# Altium footprint library alexsb.PCBLIB: 444 footprints (part 11 of 28)
Each footprint in its own frame and in the unit in brackets; x right, y up, seen from the top. Pads: shape width x height; smd on the part's side, far side on the other; paste and mask are expansions set on the pad; w line width, h text height; cw(c..) or ccw(c..) is an arc to the next point about the centre after c.
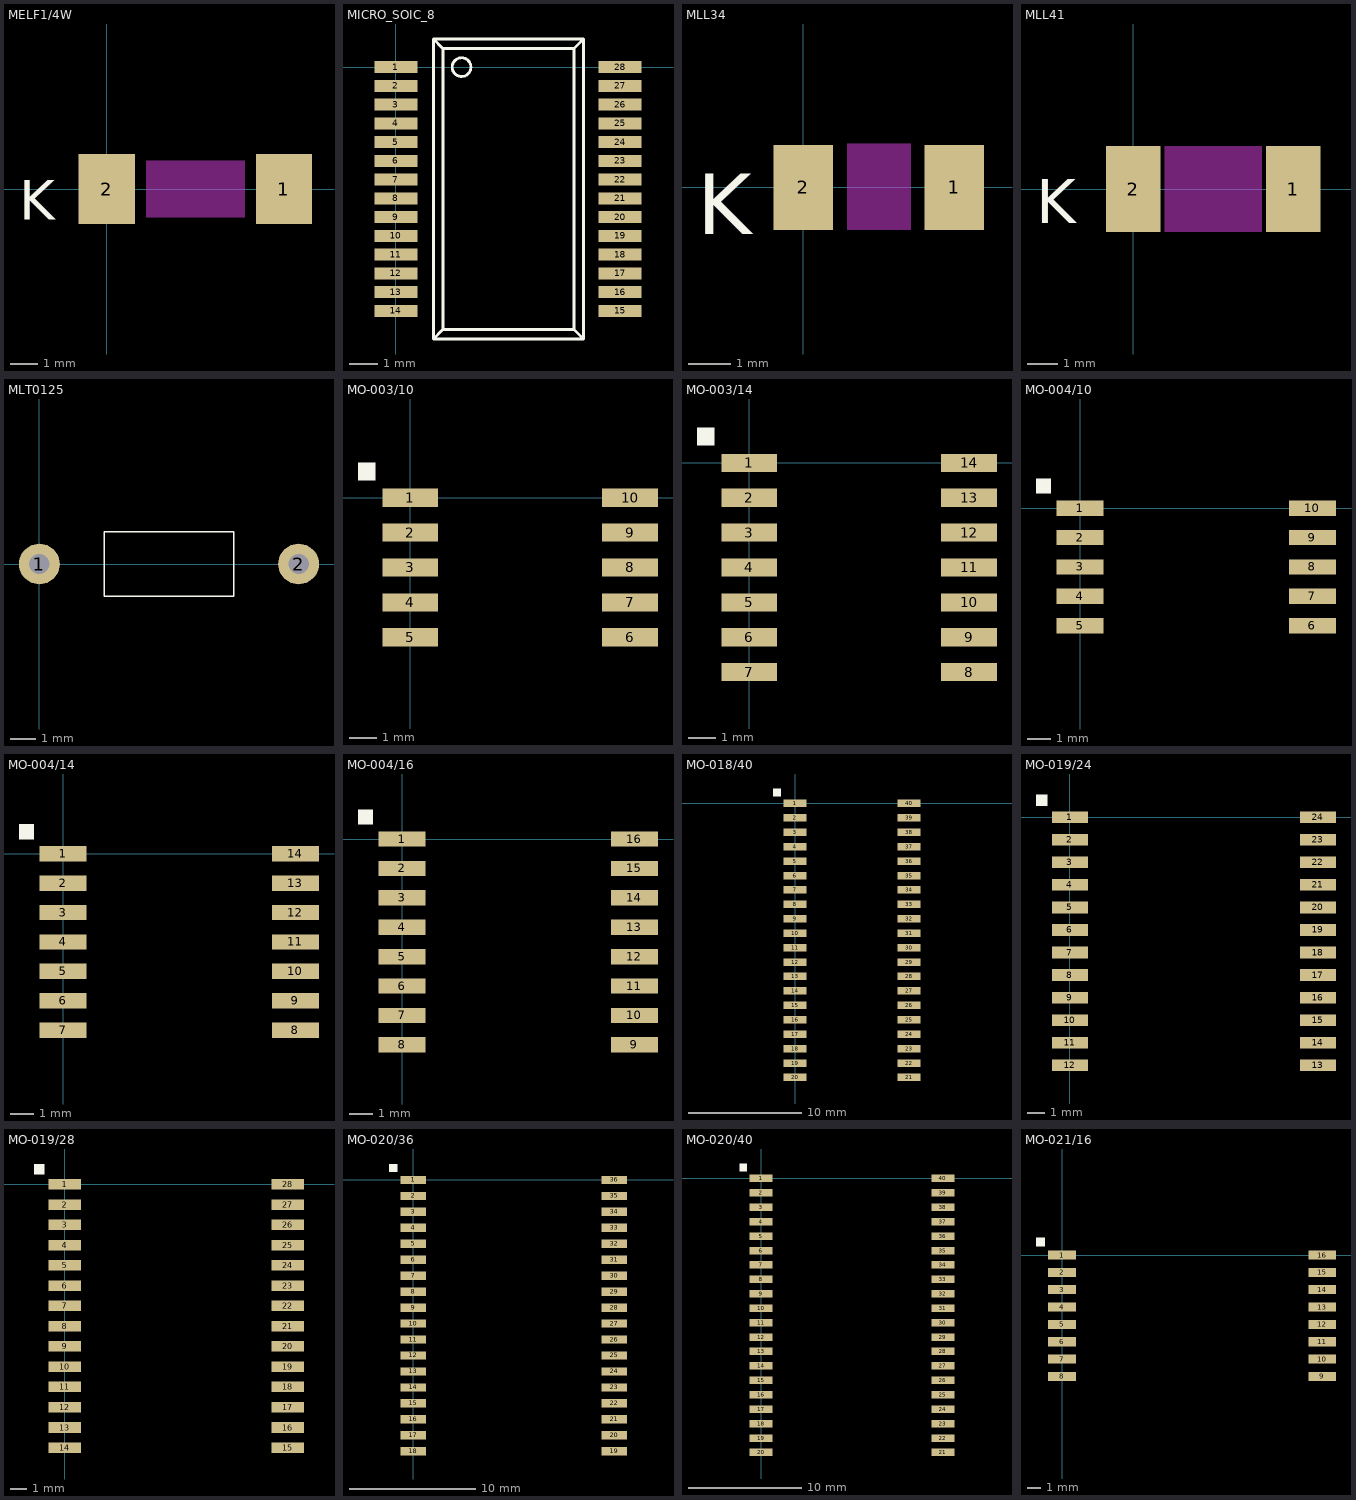
[diagram p10: the footprints below, top view; thin cyan lines are the x and y axes]

## MELF1/4W [mil]
pads (2):
  rect 80x100 smd: 1(252,0) 2(0,0)
Top Overlay:
  text "K" at -125,-44 h56.88
Multi-Layer keep-out:
  region: 196,-40 196,40 56,40 56,-40

## MICRO_SOIC_8 [mm]
pads (28):
  rect 1.5x0.42 smd: 1(0,0) 2(0,-0.65) 3(0,-1.3) 4(0,-1.95) 5(0,-2.6) 6(0,-3.25) 7(0,-3.9) 8(0,-4.55) 9(0,-5.2) 10(0,-5.85) 11(0,-6.5) 12(0,-7.15) 13(0,-7.8) 14(0,-8.45) 15(7.77,-8.45) 16(7.77,-7.8) 17(7.77,-7.15) 18(7.77,-6.5) 19(7.77,-5.85) 20(7.77,-5.2) 21(7.77,-4.55) 22(7.77,-3.9) 23(7.77,-3.25) 24(7.77,-2.6) 25(7.77,-1.95) 26(7.77,-1.3) 27(7.77,-0.65) 28(7.77,0)
Top Overlay:
  circle w0.1: c2.275,0 r0.325
  lines w0.1: 1.3,-9.425 1.625,-9.1 ; 1.3,-9.425 6.5,-9.425 ; 1.3,-9.425 1.3,0.975 ; 1.3,0.975 1.625,0.65 ; 1.3,0.975 6.5,0.975 ; 1.625,-9.1 6.175,-9.1 ; 1.625,-9.1 1.625,0.65 ; 1.625,0.65 6.175,0.65 ; 6.175,-9.1 6.5,-9.425 ; 6.175,-9.1 6.175,0.65 ; 6.175,0.65 6.5,0.975 ; 6.5,-9.425 6.5,0.975

## MLL34 [mil]
pads (2):
  rect 56x80 smd: 1(142,0) 2(0,0)
Top Overlay:
  text "K" at -100,-44 h56.88
Multi-Layer keep-out:
  region: 101,-40 101,41 41,41 41,-40

## MLL41 [mil]
pads (2):
  rect 70x110 smd: 1(205,0) 2(0,0)
Top Overlay:
  text "K" at -125,-44 h56.88
Multi-Layer keep-out:
  region: 165,-55 165,55 40,55 40,-55

## MLT0125 [mm]
pads (2):
  round 1.6 hole 0.8: 1(0,0) 2(10.16,0)
Top Overlay:
  lines w0.05: 2.54,-1.27 2.54,1.27 7.62,1.27 7.62,-1.27 2.54,-1.27

## MO-003/10 [mil]
pads (10):
  rect 80x26 smd: 1(0,0) 2(0,-50) 3(0,-100) 4(0,-150) 5(0,-200) 6(315,-200) 7(315,-150) 8(315,-100) 9(315,-50) 10(315,0)
Top Overlay:
  region: -75,25 -50,25 -50,50 -75,50

## MO-003/14 [mil]
pads (14):
  rect 80x26 smd: 1(0,0) 2(0,-50) 3(0,-100) 4(0,-150) 5(0,-200) 6(0,-250) 7(0,-300) 8(315,-300) 9(315,-250) 10(315,-200) 11(315,-150) 12(315,-100) 13(315,-50) 14(315,0)
Top Overlay:
  region: -50,25 -50,50 -75,50 -75,25

## MO-004/10 [mil]
pads (10):
  rect 80x26 smd: 1(0,0) 2(0,-50) 3(0,-100) 4(0,-150) 5(0,-200) 6(395,-200) 7(395,-150) 8(395,-100) 9(395,-50) 10(395,0)
Top Overlay:
  region: -75,25 -50,25 -50,50 -75,50

## MO-004/14 [mil]
pads (14):
  rect 80x26 smd: 1(0,0) 2(0,-50) 3(0,-100) 4(0,-150) 5(0,-200) 6(0,-250) 7(0,-300) 8(395,-300) 9(395,-250) 10(395,-200) 11(395,-150) 12(395,-100) 13(395,-50) 14(395,0)
Top Overlay:
  region: -75,25 -50,25 -50,50 -75,50

## MO-004/16 [mil]
pads (16):
  rect 80x26 smd: 1(0,0) 2(0,-50) 3(0,-100) 4(0,-150) 5(0,-200) 6(0,-250) 7(0,-300) 8(0,-350) 9(395,-350) 10(395,-300) 11(395,-250) 12(395,-200) 13(395,-150) 14(395,-100) 15(395,-50) 16(395,0)
Top Overlay:
  region: -75,25 -50,25 -50,50 -75,50

## MO-018/40 [mil]
pads (40):
  rect 80x26 smd: 1(0,0) 2(0,-50) 3(0,-100) 4(0,-150) 5(0,-200) 6(0,-250) 7(0,-300) 8(0,-350) 9(0,-400) 10(0,-450) 11(0,-500) 12(0,-550) 13(0,-600) 14(0,-650) 15(0,-700) 16(0,-750) 17(0,-800) 18(0,-850) 19(0,-900) 20(0,-950) 21(395,-950) 22(395,-900) 23(395,-850) 24(395,-800) 25(395,-750) 26(395,-700) 27(395,-650) 28(395,-600) 29(395,-550) 30(395,-500) 31(395,-450) 32(395,-400) 33(395,-350) 34(395,-300) 35(395,-250) 36(395,-200) 37(395,-150) 38(395,-100) 39(395,-50) 40(395,0)
Top Overlay:
  region: -75,25 -50,25 -50,50 -75,50

## MO-019/24 [mil]
pads (24):
  rect 80x26 smd: 1(0,0) 2(0,-50) 3(0,-100) 4(0,-150) 5(0,-200) 6(0,-250) 7(0,-300) 8(0,-350) 9(0,-400) 10(0,-450) 11(0,-500) 12(0,-550) 13(550,-550) 14(550,-500) 15(550,-450) 16(550,-400) 17(550,-350) 18(550,-300) 19(550,-250) 20(550,-200) 21(550,-150) 22(550,-100) 23(550,-50) 24(550,0)
Top Overlay:
  region: -75,25 -50,25 -50,50 -75,50

## MO-019/28 [mil]
pads (28):
  rect 80x26 smd: 1(0,0) 2(0,-50) 3(0,-100) 4(0,-150) 5(0,-200) 6(0,-250) 7(0,-300) 8(0,-350) 9(0,-400) 10(0,-450) 11(0,-500) 12(0,-550) 13(0,-600) 14(0,-650) 15(550,-650) 16(550,-600) 17(550,-550) 18(550,-500) 19(550,-450) 20(550,-400) 21(550,-350) 22(550,-300) 23(550,-250) 24(550,-200) 25(550,-150) 26(550,-100) 27(550,-50) 28(550,0)
Top Overlay:
  region: -75,25 -50,25 -50,50 -75,50

## MO-020/36 [mil]
pads (36):
  rect 80x26 smd: 1(0,0) 2(0,-50) 3(0,-100) 4(0,-150) 5(0,-200) 6(0,-250) 7(0,-300) 8(0,-350) 9(0,-400) 10(0,-450) 11(0,-500) 12(0,-550) 13(0,-600) 14(0,-650) 15(0,-700) 16(0,-750) 17(0,-800) 18(0,-850) 19(630,-850) 20(630,-800) 21(630,-750) 22(630,-700) 23(630,-650) 24(630,-600) 25(630,-550) 26(630,-500) 27(630,-450) 28(630,-400) 29(630,-350) 30(630,-300) 31(630,-250) 32(630,-200) 33(630,-150) 34(630,-100) 35(630,-50) 36(630,0)
Top Overlay:
  region: -75,25 -50,25 -50,50 -75,50

## MO-020/40 [mil]
pads (40):
  rect 80x26 smd: 1(0,0) 2(0,-50) 3(0,-100) 4(0,-150) 5(0,-200) 6(0,-250) 7(0,-300) 8(0,-350) 9(0,-400) 10(0,-450) 11(0,-500) 12(0,-550) 13(0,-600) 14(0,-650) 15(0,-700) 16(0,-750) 17(0,-800) 18(0,-850) 19(0,-900) 20(0,-950) 21(630,-950) 22(630,-900) 23(630,-850) 24(630,-800) 25(630,-750) 26(630,-700) 27(630,-650) 28(630,-600) 29(630,-550) 30(630,-500) 31(630,-450) 32(630,-400) 33(630,-350) 34(630,-300) 35(630,-250) 36(630,-200) 37(630,-150) 38(630,-100) 39(630,-50) 40(630,0)
Top Overlay:
  region: -75,25 -50,25 -50,50 -75,50

## MO-021/16 [mil]
pads (16):
  rect 80x26 smd: 1(0,0) 2(0,-50) 3(0,-100) 4(0,-150) 5(0,-200) 6(0,-250) 7(0,-300) 8(0,-350) 9(750,-350) 10(750,-300) 11(750,-250) 12(750,-200) 13(750,-150) 14(750,-100) 15(750,-50) 16(750,0)
Top Overlay:
  region: -75,25 -50,25 -50,50 -75,50